# EAGLE library part LM3915 (library wheat)
IC, BAR GRAPH, LM3915
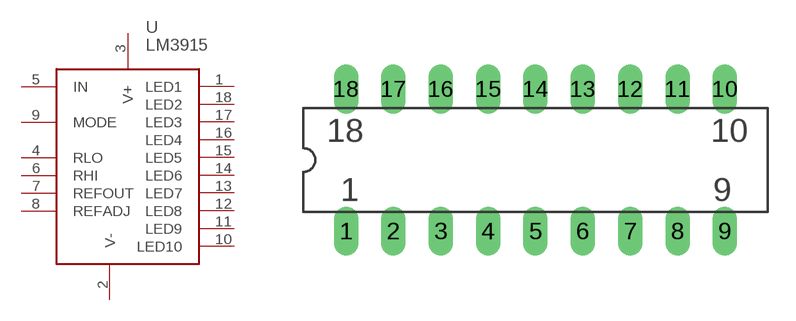
[diagram p31: symbol with the pads of DIP18; footprint DIP18]

Designator prefix U

## LM3915  [DIP18]
1  LED1  out
2  V-  pwr
3  V+  pwr
4  RLO  in
5  IN  in
6  RHI  in
7  REFOUT  out
8  REFADJ  in
9  MODE  in
10  LED10  out
11  LED9  out
12  LED8  out
13  LED7  out
14  LED6  out
15  LED5  out
16  LED4  out
17  LED3  out
18  LED2  out

## Footprint DIP18 (pad centres in mm)
DIP 18 .3LS
drill 0.813 long: 1 0,0; 2 2.54,0; 3 5.08,0; 4 7.62,0; 5 10.16,0; 6 12.7,0; 7 15.24,0; 8 17.78,0; 9 20.32,0; 10 20.32,7.62; 11 17.78,7.62; 12 15.24,7.62; 13 12.7,7.62; 14 10.16,7.62; 15 7.62,7.62; 16 5.08,7.62; 17 2.54,7.62; 18 0,7.62